# Altium schematic symbol library B105misc.SchLib: 21 symbols
Pins are listed as number, name and electrical type; pins without a type are passive.

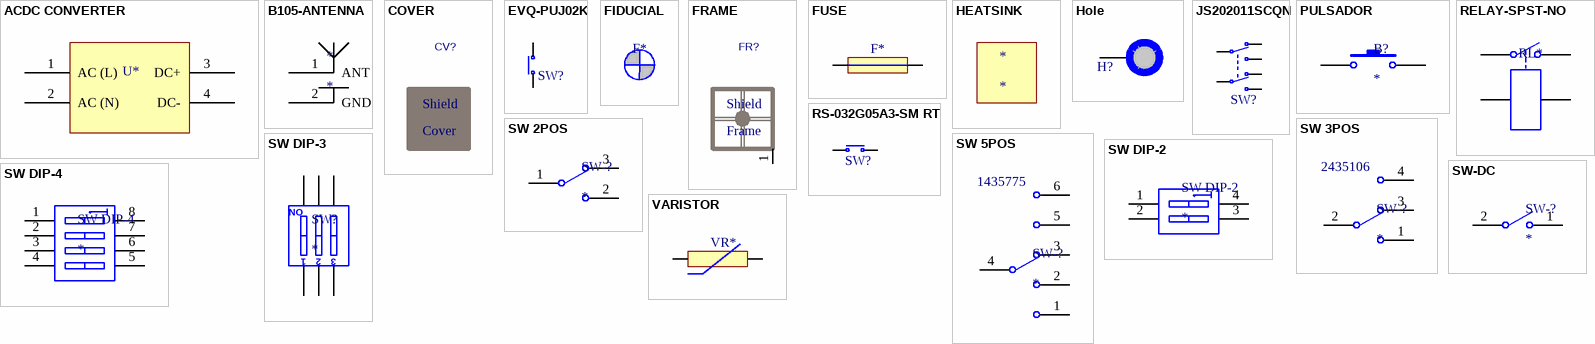
[diagram p0: symbols ACDC CONVERTER to VARISTOR]

## ACDC CONVERTER
designator U*  (value not drawn)
footprint VTX-214-0xx (AC-DC Converter)
pins: 1 AC (L), 2 AC (N), 3 DC+, 4 DC-

## B105-ANTENNA
designator *
footprint B105-Antenna
pins: 1 ANT, 2 GND

## COVER
designator CV?
Cover for metal shield
text: Shield; Cover

## EVQ-PUJ02K
designator SW?  (value not drawn)
SWITCH TACTILE SPST-NO 0.05A 12V; Manufacturer: Panasonic Electronic Components; Switch Function: Off-Mom; Contact Rating @ Voltage: 0.05A @ 12VDC; Actuator Type: Rectangular Button; Actuator Orientation: Side Actuated; Outline: 4.70mm x 3.50mm; Illumination: Non-Illuminated; Operating Force: 160gf; Switch Travel: 0.30mm; Mechanical Life: 100,000 Cycles; Supplier 1: Digi-Key; Supplier Part Number 1: P10851SCT-ND; Manufacturer Part Number: EVQ-PUJ02K; RoHS: RoHS Compliant; Category: Switches; Packaging: Cut Tape (CT); Circuit: SPST-NO; Mounting Type: Surface Mount, Right Angle; Actuator Height off PCB, from Pins: -; Termination Style: Gull Wing; Illumination Voltage (Nominal): -; Illumination Type, Color: -; Ingress Protection: -; Features: -; Actuator Material: -; Operating Temperature: -20°C ~ 70°C; ComponentLink1URL: http://industrial.panasonic.com/cdbs/www-data/pdf/ATK0000/ATK0000CE2.pdf; ComponentLink1Description: http://industrial.panasonic.com/cdbs/www-data/pdf/ATK0000/ATK0000CE2.pdf; Supplier 2: Mouser; Supplier Part Number 2: 667-EVQ-PUJ02K; Supplier 3: Farnell; Supplier Part Number 3: 2284610
footprint EVQPUJ02K
pins: 1 A1, 2 B1, 3 A2, 4 B2

## FIDUCIAL
designator F*, comment F*  (value not drawn)
footprint FIDUCIAL (1mm inner diameter, 2mm outer diameter)

## FRAME
designator FR?, comment Shield Frame  (value not drawn)
SMD frame for metal shield
footprint WE36103205 (SMD frame for metal shield 20mm x 20mm)
footprint WE36103255 (SMD frame for metal shield 26.5mm x 26.5mm)
pins: 1 GND
text: Shield; Frame

## FUSE
designator F*  (value not drawn)
footprint Fuse SMD 463 Series
pins: 1, 2

## HEATSINK
designator *
footprint TSA_TI HEATSINK

## Hole
designator H?  (no BOM)
Mounting hole
footprint M2NPTH_TIGHT (M2 non-plated tigh hole)
footprint M2PTH_TIGHT (M2 plated tigh hole)
footprint M2.5NPTH_TIGHT (M2.5 non-plated tigh hole)
footprint M2.5PTH_TIGHT (M2.5 plated tigh hole)
pins: H

## JS202011SCQN
designator SW?  (value not drawn)
SWITCH SLIDE DPDT 300MA 6V; Manufacturer: C&K; Contact Timing: Not Specified; Switch Function: On-On; Current Rating: 300mA (DC); Actuator Type: Standard; Actuator Length: 2.00mm; Actuator Material: Polyamide (PA46), Nylon 4/6; Electrical Life: 5,000 Cycles; Supplier 1: Digi-Key; Manufacturer Part Number: JS202011SCQN; RoHS: RoHS Compliant; Category: Switches; Stock 1: 58991; Pricing 1: 1=0.41, 10=0.396, 25=0.388, 50=0.3468, 100=0.3303, 250=0.322, 500=0.27246 (EUR); Packaging: Cut Tape (CT); Part Status: Active; Circuit: DPDT; Voltage Rating - AC: -; Voltage Rating - DC: 6V; Contact Material: Copper Alloy; Contact Finish: Silver; Mounting Type: Surface Mount; Termination Style: Gull Wing; Features: -; Switch Travel: 2.00mm; Operating Temperature: -40°C ~ 85°C; Mechanical Life: -; Operating Force: -; ComponentLink1URL: http://www.ckswitches.com/media/1422/js.pdf; ComponentLink1Description: http://www.ckswitches.com/media/1422/js.pdf; Supplier 2: Mouser; Supplier 3: Farnell; Supplier Part Number 1: 401-2002-1-ND; Supplier Part Number 2: 611-JS202011SCQN; Supplier Part Number 3: 2320019
footprint JS202011SCQN
pins: 1 N.O-1, 2 COM-1, 3 N.C-1, 4 N.O-2, 5 COM-2, 6 N.C-2

## PULSADOR
designator B?
footprint B3U-1000P
footprint BUTTON - GPTS2032
pins: 1, 2

## RELAY-SPST-NO
designator RL*, comment SPST-NO  (value not drawn)
footprint OZ-1M RELAY (TE Connectivity OZ-1M Relays)
pins: 1, 2, 3, 4

## RS-032G05A3-SM RT
designator SW?  (value not drawn)
SWITCH TACTILE SPST-NO 0.05A 12V; Manufacturer: C&K Components; Switch Function: Off-Mom; Contact Rating @ Voltage: 0.05A @ 12VDC; Actuator Type: Rectangular Button; Actuator Height off PCB, from Pins: 4.30mm; Actuator Orientation: Top Actuated; Outline: 6.00mm x 3.50mm; Illumination: Non-Illuminated; Operating Force: 250gf; Actuator Material: Polyamide (PA), Nylon; Switch Travel: 0.25mm; Mechanical Life: 30,000 Cycles; Supplier 1: Digi-Key; Supplier Part Number 1: CKN10388CT-ND; Manufacturer Part Number: RS-032G05A3-SM RT; RoHS: RoHS Compliant; Category: Switches; Packaging: Cut Tape (CT); Part Status: Active; Circuit: SPST-NO; Mounting Type: Surface Mount; Termination Style: Gull Wing; Illumination Voltage (Nominal): -; Illumination Type, Color: -; Ingress Protection: -; Features: -; Operating Temperature: -; ComponentLink1URL: http://media.digikey.com/pdf/Data%20Sheets/C&K/RS-032G05_-SM_RT.pdf; ComponentLink1Description: http://media.digikey.com/pdf/Data%20Sheets/C&K/RS-032G05_-SM_RT.pdf; Supplier 2: Mouser; Supplier Part Number 2: 611-RS-032G05A3-SMRT
footprint PUSHBUTTON_1 (Generic 6x3.5mm SMD Gull Wing tactile button)
pins: 1 A, 2 B

## SW 2POS
designator SW-?
footprint WE01014042 (Connector; Header; 2 Position)
footprint WE02014072 (Connector; Header; 2 Position)
pins: 1, 2, 3

## SW 3POS
designator SW-?  Supplier Part Number 1: 2435106
Supplier 1: Farnell
footprint SW-3POS
pins: 1, 2, 3, 4

## SW 5POS
designator SW-?  Supplier Part Number 1: 1435775
Supplier 1: Farnell
footprint Header-1x6
pins: 1, 2, 3, 4, 5, 6

## SW DIP-2
designator SW DIP-2
footprint SW-TSOP-A6S-2104-H (SOP, 4-Leads, Body 6,00x6,20mm, Pitch 2,54mm, IPC Medium Density)
pins: 1 A1, 2 A2, 3 B2, 4 B1

## SW DIP-3
designator SW?
footprint 219-3MSTR (Dip Switch SPST 3 Position Surface Mount Slide (Standard) Actuator 100mA 20VDC)
pins: 1 A1, 2 A2, 3 A3, 4 A4, 5 B4, 6 B3
text: ON

## SW DIP-4
designator SW DIP-4
footprint TSOP-8N-127-DIP-SWITCH (TSOP, 8-Leads, Body 6.35x4.50mm, Pitch 1.27mm, IPC Medium Density)
pins: 1 A1, 2 A2, 3 A3, 4 A4, 5 B4, 6 B3, 7 B2, 8 B1

## SW-DC
designator SW-?
footprint SW-DC-MC33428
footprint HEADER-1x2
footprint SW-DC-ROCKER_RIGHT_ANGLE
pins: 1, 2

## VARISTOR
designator VR*  (value not drawn)
footprint S20K275 (Varistor 430V 8kA Disc 20mm EPCOS (TDK))
footprint S14K275E2K1 (Varistor 430V 6kA Disc 14mm EPCOS (TDK))
pins: 1, 2